# EAGLE library part 740-112 (library con-wago_740)
Serie 740, Klemmenleiste für Leiterplatten 1 Lötstift/Pol / Series 740, PCB terminal strip 1 solder pin/pole Polzahl / Pole No.: 12 Rastermaß / Pitch: 5 mm Bemessungsspannung / Rated Voltage: 320 V Nennstrom / Nominal Current: 16 A Leiterquerschnitt / Conductor Size: 0.08 - 2.5 mm² Anschlusstechnik / Connection Technology: CAGE CLAMP® Lötstiftlänge: / Solder Pin Length: 5.1 mm Leitereinführung (zur Platine) / Conductor entry angle (to PCB): 0 ° Farbe / Color: grau / gray Stand: 01.01.2012. Die jeweils aktuellen Daten zu diesem Artikel finden Sie in unserem Produktkatalog, den Sie unter www.wago.com einsehen können. As of: 01/01/2012. Please find the newest data for this article in our product catalogue, which can be viewed under www.wago.com.
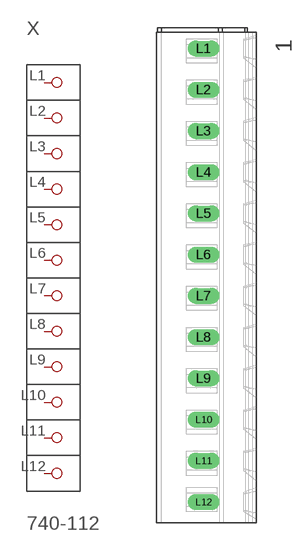
[diagram p5: symbol with the pads of P-740-112; footprint P-740-112]

Designator prefix X

## 740-112  [P-740-112]
L1  P1
L2  P2
L3  P3
L4  P4
L5  P5
L6  P6
L7  P7
L8  P8
L9  P9
L10  P10
L11  P11
L12  P12

## Footprint P-740-112 (pad centres in mm)
drill 1.3 long: L1 -0.35,27.5; L2 -0.35,22.5; L3 -0.35,17.5; L4 -0.35,12.5; L5 -0.35,7.5; L6 -0.35,2.5; L7 -0.35,-2.5; L8 -0.35,-7.5; L9 -0.35,-12.5; L10 -0.35,-17.5; L11 -0.35,-22.5; L12 -0.35,-27.5